# Altium footprint library TRIM_PTN24B-C1015DPA.PcbLib: 1 footprints
Each footprint in its own frame and in the unit in brackets; x right, y up, seen from the top. Pads: shape width x height; smd on the part's side, far side on the other; paste and mask are expansions set on the pad; w line width, h text height; cw(c..) or ccw(c..) is an arc to the next point about the centre after c.
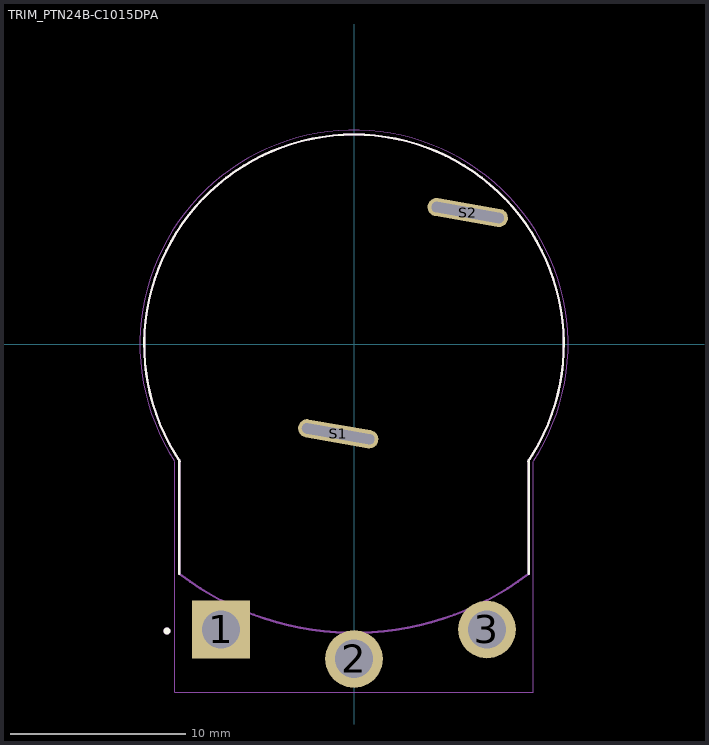
[diagram p0: the footprint, top view; thin cyan lines are the x and y axes]

## TRIM_PTN24B-C1015DPA [mm]
pads (5):
  rect 3.3x3.3 / inner round 3.3 / far side rect 3.3x3.3 hole 2.2: 1(-7.607,-16.314)
  round 3.3 hole 2.2: 2(0,-18) 3(7.607,-16.314)
  oval 4.65x1.05 hole 0.6 slot 4.2 at 170 deg rot 170: S1(-0.903,-5.121) S2(6.507,7.535)
Top Overlay:
  circle w0.2: c-10.7,-16.4 r0.1
  lines w0.127: -10,-13.124 -10,-6.633 ; -9.948,-6.71 cw(c0,0) 9.948,-6.71 ; 10,-13.124 10,-6.633
Assembly Top:
  circle w0.2: c-10.7,-16.4 r0.1
  lines w0.127: -10,-13.124 -10,-6.633 ; -9.948,-6.71 cw(c0,0) 9.948,-6.71 ; -9.93,-13.177 ccw(c0,0) 9.93,-13.177 ; 10,-13.124 10,-6.633
Courtyard Top:
  lines w0.05: -10.274,-6.672 cw(c0,0) 10.274,-6.672 ; -10.25,-13.25 -10.25,-19.9 10.25,-19.9 10.25,-13.25 ; -10.25,-13.248 -10.25,-6.708 ; 10.25,-13.248 10.25,-6.708